# Altium schematic symbol library 1.0 - DDR2-DDR3-LPDDR4-RMII PHY.SchLib: 5 symbols
Pins are listed as number, name and electrical type; pins without a type are passive.

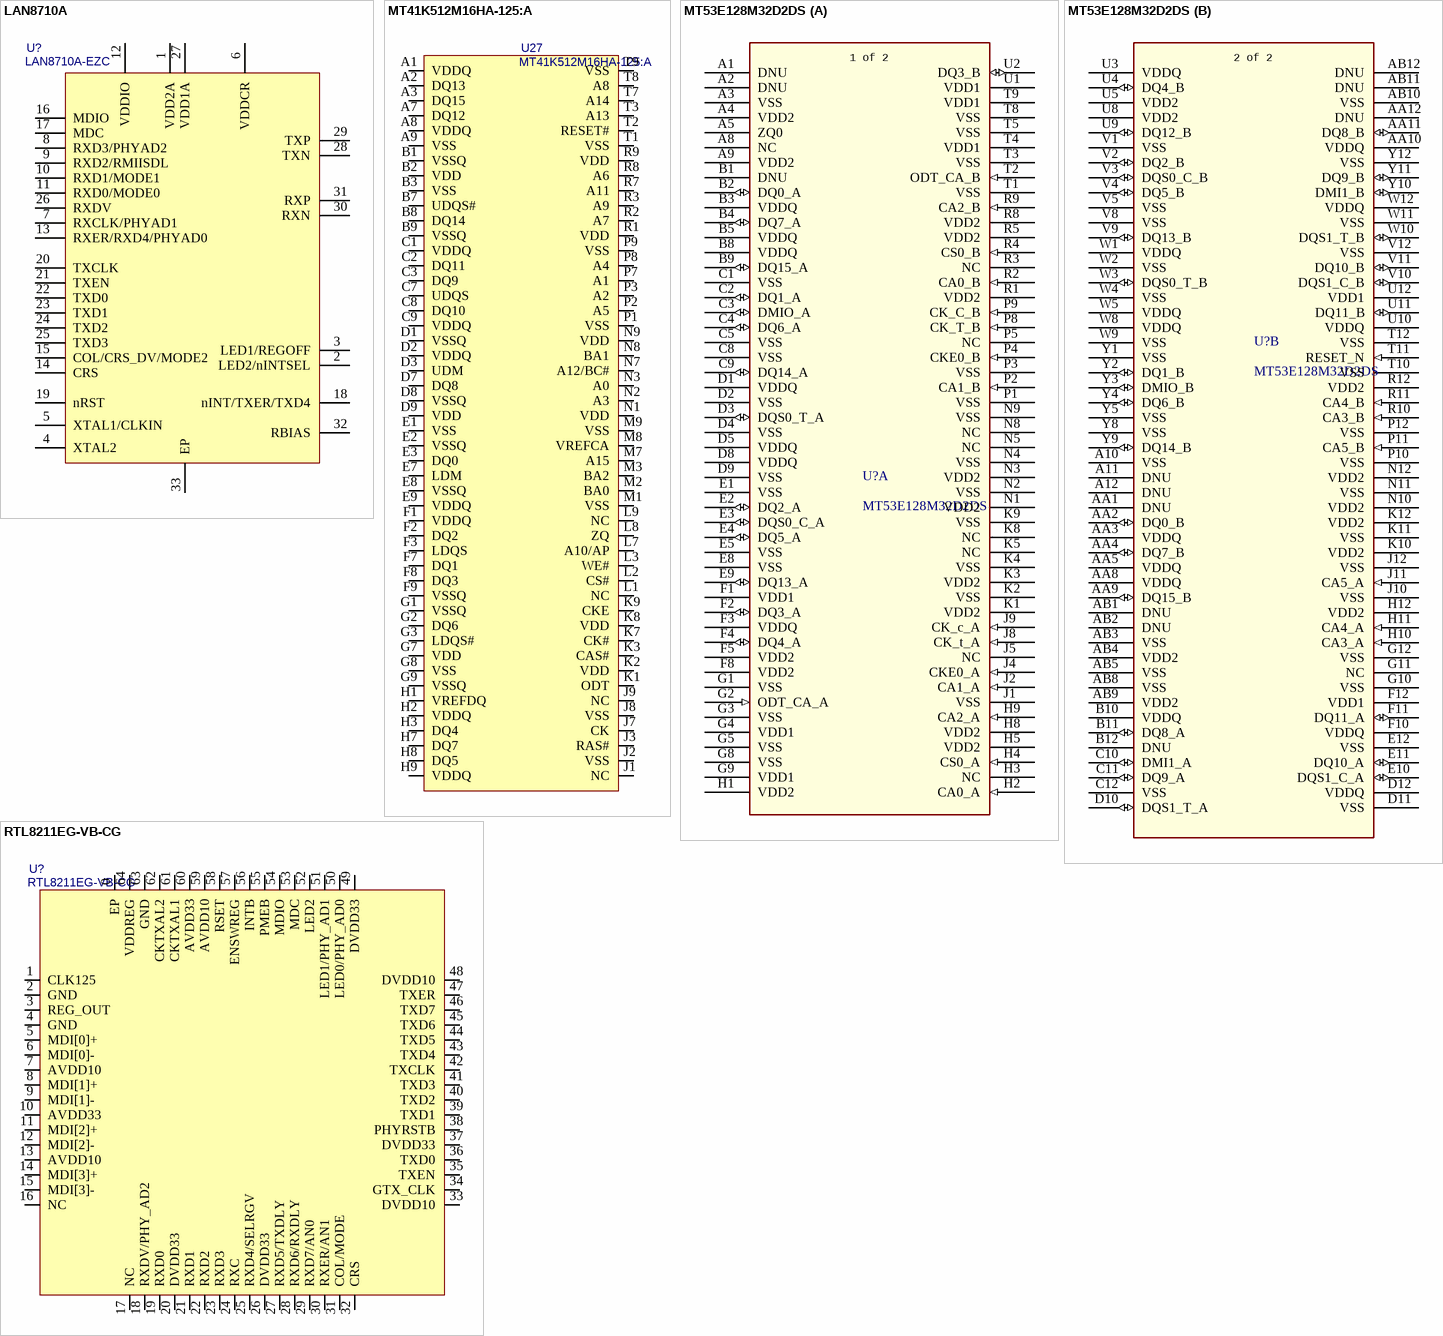
[diagram p0: symbols LAN8710A to RTL8211EG-VB-CG]

## LAN8710A
designator U?, comment LAN8710A-EZC
10/100M 以太网收发器; BOM名称: LAN8710A-EZC-TR; 芯片厂商: SMSC; 联系卖家，免费查找封装: 唯一出售店铺网址https://shop463601444.taobao.com
footprint UFQFPN32_N (QFN, 32-Leads, Body 5x5mm, Pitch 0.5mm, Thermal Pad 3.6x3.6mm, IPC Medium Density)
pins: 1 VDD2A, 2 LED2/nINTSEL, 3 LED1/REGOFF, 4 XTAL2, 5 XTAL1/CLKIN, 6 VDDCR, 7 RXCLK/PHYAD1, 8 RXD3/PHYAD2, 9 RXD2/RMIISDL, 10 RXD1/MODE1, 11 RXD0/MODE0, 12 VDDIO, 13 RXER/RXD4/PHYAD0, 14 CRS, 15 COL/CRS_DV/MODE2, 16 MDIO, 17 MDC, 18 nINT/TXER/TXD4, 19 nRST, 20 TXCLK, 21 TXEN, 22 TXD0, 23 TXD1, 24 TXD2, 25 TXD3, 26 RXDV, 27 VDD1A, 28 TXN, 29 TXP, 30 RXN, 31 RXP, 32 RBIAS, 33 EP

## MT41K512M16HA-125:A
designator U27
64M x 16 x 8 banks DDR3L; 联系卖家，免费查找封装: 唯一出售店铺网址https://shop463601444.taobao.com; 芯片厂商: Micron Tech; BOM名称: MT41K512M16HA-125:A
footprint DDR3_FBGA 96 (封装库来自淘宝卖家 ID：黄晶宝石)
pins: A1 VDDQ, A2 DQ13, A3 DQ15, A7 DQ12, A8 VDDQ, A9 VSS, B1 VSSQ, B2 VDD, B3 VSS, B7 UDQS#, B8 DQ14, B9 VSSQ, C1 VDDQ, C2 DQ11, C3 DQ9, C7 UDQS, C8 DQ10, C9 VDDQ, D1 VSSQ, D2 VDDQ, D3 UDM, D7 DQ8, D8 VSSQ, D9 VDD, E1 VSS, E2 VSSQ, E3 DQ0, E7 LDM, E8 VSSQ, E9 VDDQ, F1 VDDQ, F2 DQ2, F3 LDQS, F7 DQ1, F8 DQ3, F9 VSSQ, G1 VSSQ, G2 DQ6, G3 LDQS#, G7 VDD, G8 VSS, G9 VSSQ, H1 VREFDQ, H2 VDDQ, H3 DQ4, H7 DQ7, H8 DQ5, H9 VDDQ, J1 NC, J2 VSS, J3 RAS#, J7 CK, J8 VSS, J9 NC, K1 ODT, K2 VDD, K3 CAS#, K7 CK#, K8 VDD, K9 CKE, L1 NC, L2 CS#, L3 WE#, L7 A10/AP, L8 ZQ, L9 NC, M1 VSS, M2 BA0, M3 BA2, M7 A15, M8 VREFCA, M9 VSS, N1 VDD, N2 A3, N3 A0, N7 A12/BC#, N8 BA1, N9 VDD, P1 VSS, P2 A5, P3 A2, P7 A1, P8 A4, P9 VSS, R1 VDD, R2 A7, R3 A9, R7 A11, R8 A6, R9 VDD, T1 VSS, T2 RESET#, T3 A13, T7 A14, T8 A8, T9 VSS

## MT53E128M32D2DS
designator U?
4Gbit 128M X 32 LPDDR4; 联系卖家，免费查找封装: 唯一出售店铺网址https://shop463601444.taobao.com
footprint FBGA200_L15W10
part A pins: A1 DNU, A2 DNU, A3 VSS, A4 VDD2 (power), A5 ZQ0, A8 NC, A9 VDD2 (power), B1 DNU, B2 DQ0_A (io), B3 VDDQ (power), B4 DQ7_A (io), B5 VDDQ (power), B8 VDDQ (power), B9 DQ15_A (io), C1 VSS, C2 DQ1_A (io), C3 DMIO_A (io), C4 DQ6_A (io), C5 VSS, C8 VSS, C9 DQ14_A (io), D1 VDDQ (power), D2 VSS, D3 DQS0_T_A (io), D4 VSS, D5 VDDQ (power), D8 VDDQ (power), D9 VSS, E1 VSS, E2 DQ2_A (io), E3 DQS0_C_A (io), E4 DQ5_A (io), E5 VSS, E8 VSS, E9 DQ13_A (io), F1 VDD1 (power), F2 DQ3_A (io), F3 VDDQ (power), F4 DQ4_A (io), F5 VDD2 (power), F8 VDD2 (power), G1 VSS, G2 ODT_CA_A (in), G3 VSS, G4 VDD1 (power), G5 VSS, G8 VSS, G9 VDD1 (power), H1 VDD2 (power), H2 CA0_A (in), H3 NC, H4 CS0_A (in), H5 VDD2 (power), H8 VDD2 (power), H9 CA2_A (in), J1 VSS, J2 CA1_A (in), J4 CKE0_A (in), J5 NC, J8 CK_t_A (in), J9 CK_c_A (in), K1 VDD2 (power), K2 VSS, K3 VDD2 (power), K4 VSS, K5 NC, K8 NC, K9 VSS, N1 VDD2 (power), N2 VSS, N3 VDD2 (power), N4 VSS, N5 NC, N8 NC, N9 VSS, P1 VSS, P2 CA1_B (in), P3 VSS, P4 CKE0_B (in), P5 NC, P8 CK_T_B (in), P9 CK_C_B (in), R1 VDD2 (power), R2 CA0_B (in), R3 NC, R4 CS0_B (in), R5 VDD2 (power), R8 VDD2 (power), R9 CA2_B (in), T1 VSS, T2 ODT_CA_B (in), T3 VSS, T4 VDD1 (power), T5 VSS, T8 VSS, T9 VDD1 (power), U1 VDD1 (power), U2 DQ3_B (io)
part B pins: A10 VSS, A11 DNU, A12 DNU, AA1 DNU, AA2 DQ0_B (io), AA3 VDDQ (power), AA4 DQ7_B (io), AA5 VDDQ (power), AA8 VDDQ (power), AA9 DQ15_B (io), AA10 VDDQ (power), AA11 DQ8_B (io), AA12 DNU, AB1 DNU, AB2 DNU, AB3 VSS, AB4 VDD2 (power), AB5 VSS, AB8 VSS, AB9 VDD2 (power), AB10 VSS, AB11 DNU, AB12 DNU, B10 VDDQ (power), B11 DQ8_A (io), B12 DNU, C10 DMI1_A (io), C11 DQ9_A (io), C12 VSS, D10 DQS1_T_A (io), D11 VSS, D12 VDDQ (power), E10 DQS1_C_A (io), E11 DQ10_A (io), E12 VSS, F10 VDDQ (power), F11 DQ11_A (io), F12 VDD1 (power), G10 VSS, G11 NC, G12 VSS, H10 CA3_A (in), H11 CA4_A (in), H12 VDD2 (power), J10 VSS, J11 CA5_A (in), J12 VSS, K10 VDD2 (power), K11 VSS, K12 VDD2 (power), N10 VDD2 (power), N11 VSS, N12 VDD2 (power), P10 VSS, P11 CA5_B (in), P12 VSS, R10 CA3_B (in), R11 CA4_B (in), R12 VDD2 (power), T10 VSS, T11 RESET_N (in), T12 VSS, U3 VDDQ (power), U4 DQ4_B (io), U5 VDD2 (power), U8 VDD2 (power), U9 DQ12_B (io), U10 VDDQ (power), U11 DQ11_B (io), U12 VDD1 (power), V1 VSS, V2 DQ2_B (io), V3 DQS0_C_B (io), V4 DQ5_B (io), V5 VSS, V8 VSS, V9 DQ13_B (io), V10 DQS1_C_B (io), V11 DQ10_B (io), V12 VSS, W1 VDDQ (power), W2 VSS, W3 DQS0_T_B (io), W4 VSS, W5 VDDQ (power), W8 VDDQ (power), W9 VSS, W10 DQS1_T_B (io), W11 VSS, W12 VDDQ (power), Y1 VSS, Y2 DQ1_B (io), Y3 DMIO_B (io), Y4 DQ6_B (io), Y5 VSS, Y8 VSS, Y9 DQ14_B (io), Y10 DMI1_B (io), Y11 DQ9_B (io), Y12 VSS
part A text: 1 of 2
part B text: 2 of 2

## RTL8211EG-VB-CG
designator U?
10/100/1000M RHY; 芯片厂商: REALTEK; 联系卖家，免费查找封装: 唯一出售店铺网址https://shop463601444.taobao.com; BOM名称: RTL8211EG-VB-CG
footprint QFN64-P50 (9mm*9mm  封装库来自淘宝卖家 ID：黄晶宝石)
pins: 0 EP, 1 CLK125, 2 GND, 3 REG_OUT, 4 GND, 5 MDI[0]+, 6 MDI[0]-, 7 AVDD10, 8 MDI[1]+, 9 MDI[1]-, 10 AVDD33, 11 MDI[2]+, 12 MDI[2]-, 13 AVDD10, 14 MDI[3]+, 15 MDI[3]-, 16 NC, 17 NC, 18 RXDV/PHY_AD2, 19 RXD0, 20 DVDD33, 21 RXD1, 22 RXD2, 23 RXD3, 24 RXC, 25 RXD4/SELRGV, 26 DVDD33, 27 RXD5/TXDLY, 28 RXD6/RXDLY, 29 RXD7/AN0, 30 RXER/AN1, 31 COL/MODE, 32 CRS, 33 DVDD10, 34 GTX_CLK, 35 TXEN, 36 TXD0, 37 DVDD33, 38 PHYRSTB, 39 TXD1, 40 TXD2, 41 TXD3, 42 TXCLK, 43 TXD4, 44 TXD5, 45 TXD6, 46 TXD7, 47 TXER, 48 DVDD10, 49 DVDD33, 50 LED0/PHY_AD0, 51 LED1/PHY_AD1, 52 LED2, 53 MDC, 54 MDIO, 55 PMEB, 56 INTB, 57 ENSWREG, 58 RSET, 59 AVDD10, 60 AVDD33, 61 CKTXAL1, 62 CKTXAL2, 63 GND, 64 VDDREG

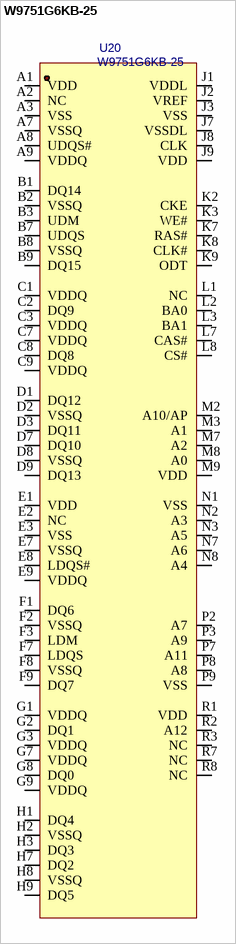
[diagram p1: symbol W9751G6KB-25]

## W9751G6KB-25
designator U20
8M 4Banks 16Bit DDR2 SDRAM; 联系卖家，免费查找封装: 唯一出售店铺网址https://shop463601444.taobao.com; 芯片厂商: WINBOND; BOM名称: W9751G6KB-25
footprint DDR2_WBGA84 (W9751G6IB)
pins: A1 VDD, A2 NC, A3 VSS, A7 VSSQ, A8 UDQS#, A9 VDDQ, B1 DQ14, B2 VSSQ, B3 UDM, B7 UDQS, B8 VSSQ, B9 DQ15, C1 VDDQ, C2 DQ9, C3 VDDQ, C7 VDDQ, C8 DQ8, C9 VDDQ, D1 DQ12, D2 VSSQ, D3 DQ11, D7 DQ10, D8 VSSQ, D9 DQ13, E1 VDD, E2 NC, E3 VSS, E7 VSSQ, E8 LDQS#, E9 VDDQ, F1 DQ6, F2 VSSQ, F3 LDM, F7 LDQS, F8 VSSQ, F9 DQ7, G1 VDDQ, G2 DQ1, G3 VDDQ, G7 VDDQ, G8 DQ0, G9 VDDQ, H1 DQ4, H2 VSSQ, H3 DQ3, H7 DQ2, H8 VSSQ, H9 DQ5, J1 VDDL, J2 VREF, J3 VSS, J7 VSSDL, J8 CLK, J9 VDD, K2 CKE, K3 WE#, K7 RAS#, K8 CLK#, K9 ODT, L1 NC, L2 BA0, L3 BA1, L7 CAS#, L8 CS#, M2 A10/AP, M3 A1, M7 A2, M8 A0, M9 VDD, N1 VSS, N2 A3, N3 A5, N7 A6, N8 A4, P2 A7, P3 A9, P7 A11, P8 A8, P9 VSS, R1 VDD, R2 A12, R3 NC, R7 NC, R8 NC